# Altium integrated library Linear Technology Operational Amplifiers (LT1000).IntLib: 2280 symbols (part 30 of 79)
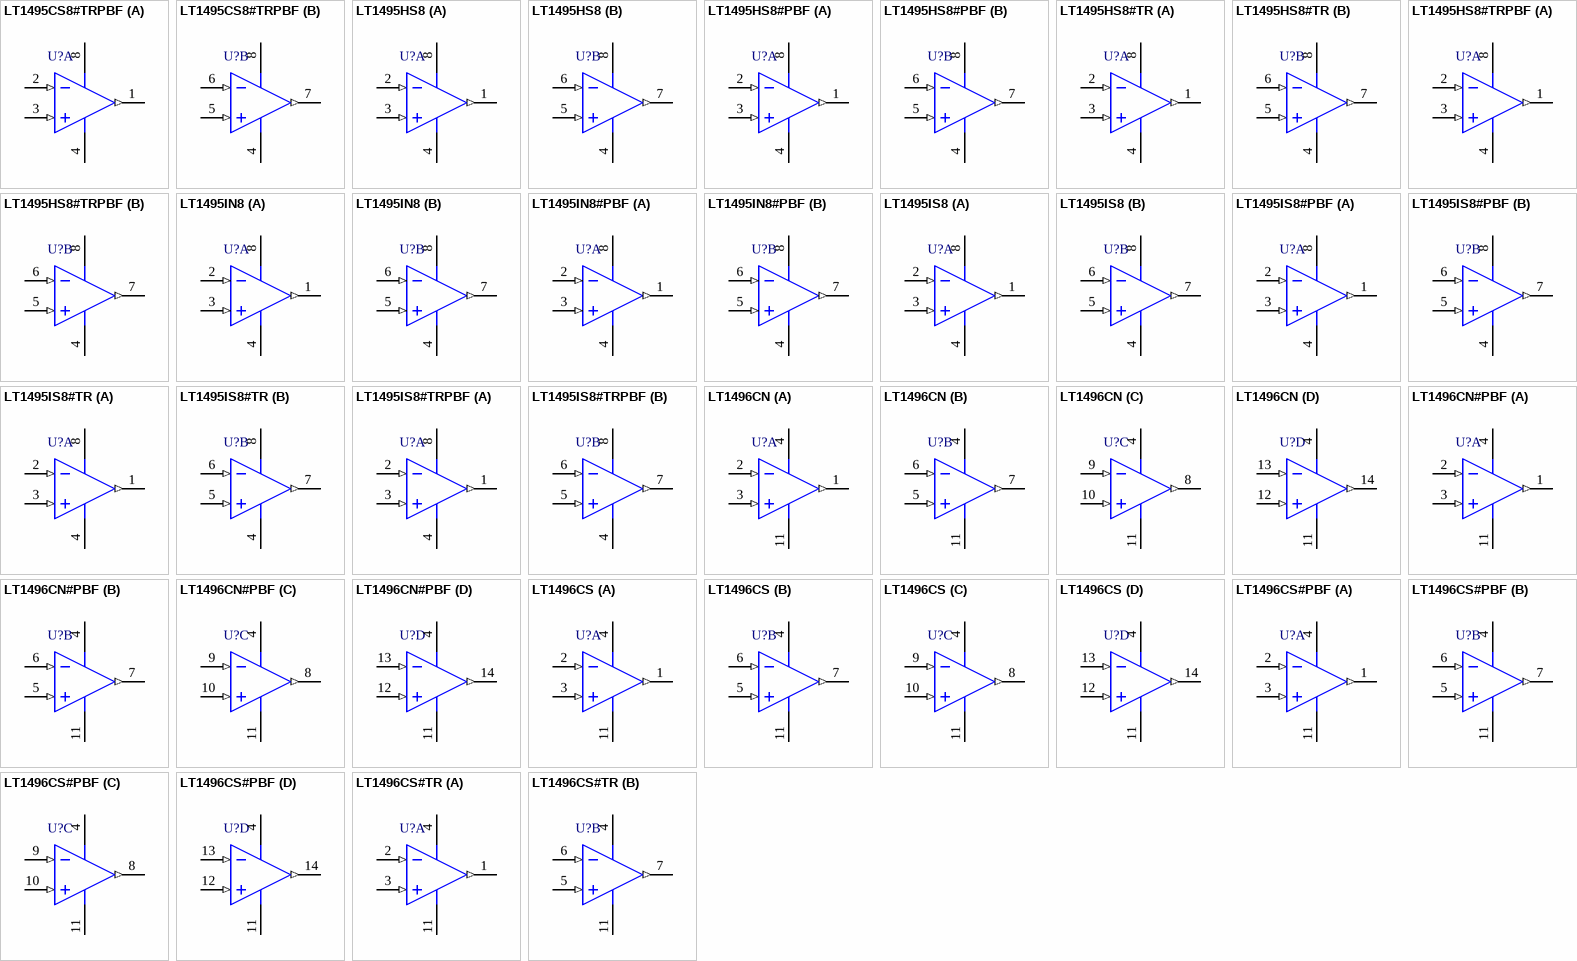
[diagram p134: symbols LT1495CS8#TRPBF to LT1496CS#TR]

## LT1495CS8#TRPBF
designator U?
Dual Channel, Ultralow Power, Rail-to-Rail Precision Operational Amplifier, 0.0027 MHz Typical GBW, 0.001 V/us Typical SR, 2.1 to 36 V, 8-Pin SOIC (S8-8), Commerical, Pb-Free, Reel; Linear Technology Part Number: LT1495; Manufacturer: Linear Technology; PartNumber: LT1495CS8#TRPBF; Channels (#): 2; GBW (MHz) Typical: 0.0027; Is (mA) Typical: 0.001; Vos (mV) Typical: 0.15; Vs Max (V): 36; Vs Min (V): 2.1; DatasheetVersion: Rev. B; PackageVersion: Rev G; PackageReference: LT-S8-8; PackageDescription: 8-Pin Plastic Small Outline, Body 4.9 x 3.9 mm, Pitch 1.27 mm; Supplier 1: Digi-Key; Supplier Part Number 1: LT1495CS8#TRPBF-ND; Packing: Reel; RoHS: Pb-Free; SR (V/us) Typical: 0.001; Type: VFB; Mounting Technology: Surface Mount; ComponentLink1Description: Manufacturer URL; ComponentLink1URL: http://www.linear.com/; ComponentLink2Description: Datasheet; ComponentLink2URL: http://cds.linear.com/docs/en/datasheet/149456fb.pdf; ComponentLink3Description: Package Specification; ComponentLink3URL: http://cds.linear.com/docs/en/packaging/05081610_G_SO8.pdf
footprint LT-S8-8_N (SOIC, 8-Leads, Body 4.9x3.9mm, Pitch 1.27mm, IPC Medium Density)
footprint LT-S8-8_L (SOIC, 8-Leads, Body 4.9x3.9mm, Pitch 1.27mm, IPC High Density)
footprint LT-S8-8_M (SOIC, 8-Leads, Body 4.9x3.9mm, Pitch 1.27mm, IPC Low Density)
pins on every part: 4 V- (power), 8 V+ (power)
part A pins: 1 OUT A (out), 2 -IN A (in), 3 +IN A (in)
part B pins: 5 +IN B (in), 6 -IN B (in), 7 OUT B (out)

## LT1495HS8
designator U?
Dual Channel, Ultralow Power, Rail-to-Rail Precision Operational Amplifier, 0.0027 MHz Typical GBW, 0.001 V/us Typical SR, 2.1 to 36 V, 8-Pin SOIC (S8-8), High Temperature / Automotive; Linear Technology Part Number: LT1495; Manufacturer: Linear Technology; PartNumber: LT1495HS8; Channels (#): 2; GBW (MHz) Typical: 0.0027; Is (mA) Typical: 0.001; Vos (mV) Typical: 0.15; Vs Max (V): 36; Vs Min (V): 2.1; DatasheetVersion: Rev. B; PackageVersion: Rev G; PackageReference: LT-S8-8; PackageDescription: 8-Pin Plastic Small Outline, Body 4.9 x 3.9 mm, Pitch 1.27 mm; Supplier 1: Digi-Key; Supplier Part Number 1: LT1495HS8-ND; Supplier 2: Newark; Supplier Part Number 2: 57M4525; SR (V/us) Typical: 0.001; Type: VFB; Mounting Technology: Surface Mount; ComponentLink1Description: Manufacturer URL; ComponentLink1URL: http://www.linear.com/; ComponentLink2Description: Datasheet; ComponentLink2URL: http://cds.linear.com/docs/en/datasheet/149456fb.pdf; ComponentLink3Description: Package Specification; ComponentLink3URL: http://cds.linear.com/docs/en/packaging/05081610_G_SO8.pdf
footprint LT-S8-8_N (SOIC, 8-Leads, Body 4.9x3.9mm, Pitch 1.27mm, IPC Medium Density)
footprint LT-S8-8_L (SOIC, 8-Leads, Body 4.9x3.9mm, Pitch 1.27mm, IPC High Density)
footprint LT-S8-8_M (SOIC, 8-Leads, Body 4.9x3.9mm, Pitch 1.27mm, IPC Low Density)
pins on every part: 4 V- (power), 8 V+ (power)
part A pins: 1 OUT A (out), 2 -IN A (in), 3 +IN A (in)
part B pins: 5 +IN B (in), 6 -IN B (in), 7 OUT B (out)

## LT1495HS8#PBF
designator U?
Dual Channel, Ultralow Power, Rail-to-Rail Precision Operational Amplifier, 0.0027 MHz Typical GBW, 0.001 V/us Typical SR, 2.1 to 36 V, 8-Pin SOIC (S8-8), High Temperature / Automotive, Pb-Free; Linear Technology Part Number: LT1495; Manufacturer: Linear Technology; PartNumber: LT1495HS8#PBF; Channels (#): 2; GBW (MHz) Typical: 0.0027; Is (mA) Typical: 0.001; Vos (mV) Typical: 0.15; Vs Max (V): 36; Vs Min (V): 2.1; DatasheetVersion: Rev. B; PackageVersion: Rev G; PackageReference: LT-S8-8; PackageDescription: 8-Pin Plastic Small Outline, Body 4.9 x 3.9 mm, Pitch 1.27 mm; Supplier 1: Digi-Key; Supplier Part Number 1: LT1495HS8#PBF-ND; Supplier 2: Newark; Supplier Part Number 2: 57M4526; RoHS: Pb-Free; SR (V/us) Typical: 0.001; Type: VFB; Mounting Technology: Surface Mount; ComponentLink1Description: Manufacturer URL; ComponentLink1URL: http://www.linear.com/; ComponentLink2Description: Datasheet; ComponentLink2URL: http://cds.linear.com/docs/en/datasheet/149456fb.pdf; ComponentLink3Description: Package Specification; ComponentLink3URL: http://cds.linear.com/docs/en/packaging/05081610_G_SO8.pdf
footprint LT-S8-8_N (SOIC, 8-Leads, Body 4.9x3.9mm, Pitch 1.27mm, IPC Medium Density)
footprint LT-S8-8_L (SOIC, 8-Leads, Body 4.9x3.9mm, Pitch 1.27mm, IPC High Density)
footprint LT-S8-8_M (SOIC, 8-Leads, Body 4.9x3.9mm, Pitch 1.27mm, IPC Low Density)
pins on every part: 4 V- (power), 8 V+ (power)
part A pins: 1 OUT A (out), 2 -IN A (in), 3 +IN A (in)
part B pins: 5 +IN B (in), 6 -IN B (in), 7 OUT B (out)

## LT1495HS8#TR
designator U?
Dual Channel, Ultralow Power, Rail-to-Rail Precision Operational Amplifier, 0.0027 MHz Typical GBW, 0.001 V/us Typical SR, 2.1 to 36 V, 8-Pin SOIC (S8-8), High Temperature / Automotive, Reel; Linear Technology Part Number: LT1495; Manufacturer: Linear Technology; PartNumber: LT1495HS8#TR; Channels (#): 2; GBW (MHz) Typical: 0.0027; Is (mA) Typical: 0.001; Vos (mV) Typical: 0.15; Vs Max (V): 36; Vs Min (V): 2.1; DatasheetVersion: Rev. B; PackageVersion: Rev G; PackageReference: LT-S8-8; PackageDescription: 8-Pin Plastic Small Outline, Body 4.9 x 3.9 mm, Pitch 1.27 mm; Supplier 1: Digi-Key; Supplier Part Number 1: LT1495HS8TR-ND; Packing: Reel; SR (V/us) Typical: 0.001; Type: VFB; Mounting Technology: Surface Mount; ComponentLink1Description: Manufacturer URL; ComponentLink1URL: http://www.linear.com/; ComponentLink2Description: Datasheet; ComponentLink2URL: http://cds.linear.com/docs/en/datasheet/149456fb.pdf; ComponentLink3Description: Package Specification; ComponentLink3URL: http://cds.linear.com/docs/en/packaging/05081610_G_SO8.pdf
footprint LT-S8-8_N (SOIC, 8-Leads, Body 4.9x3.9mm, Pitch 1.27mm, IPC Medium Density)
footprint LT-S8-8_L (SOIC, 8-Leads, Body 4.9x3.9mm, Pitch 1.27mm, IPC High Density)
footprint LT-S8-8_M (SOIC, 8-Leads, Body 4.9x3.9mm, Pitch 1.27mm, IPC Low Density)
pins on every part: 4 V- (power), 8 V+ (power)
part A pins: 1 OUT A (out), 2 -IN A (in), 3 +IN A (in)
part B pins: 5 +IN B (in), 6 -IN B (in), 7 OUT B (out)

## LT1495HS8#TRPBF
designator U?
Dual Channel, Ultralow Power, Rail-to-Rail Precision Operational Amplifier, 0.0027 MHz Typical GBW, 0.001 V/us Typical SR, 2.1 to 36 V, 8-Pin SOIC (S8-8), High Temperature / Automotive, Pb-Free, Reel; Linear Technology Part Number: LT1495; Manufacturer: Linear Technology; PartNumber: LT1495HS8#TRPBF; Channels (#): 2; GBW (MHz) Typical: 0.0027; Is (mA) Typical: 0.001; Vos (mV) Typical: 0.15; Vs Max (V): 36; Vs Min (V): 2.1; DatasheetVersion: Rev. B; PackageVersion: Rev G; PackageReference: LT-S8-8; PackageDescription: 8-Pin Plastic Small Outline, Body 4.9 x 3.9 mm, Pitch 1.27 mm; Supplier 1: Digi-Key; Supplier Part Number 1: LT1495HS8#TRPBF-ND; Packing: Reel; RoHS: Pb-Free; SR (V/us) Typical: 0.001; Type: VFB; Mounting Technology: Surface Mount; ComponentLink1Description: Manufacturer URL; ComponentLink1URL: http://www.linear.com/; ComponentLink2Description: Datasheet; ComponentLink2URL: http://cds.linear.com/docs/en/datasheet/149456fb.pdf; ComponentLink3Description: Package Specification; ComponentLink3URL: http://cds.linear.com/docs/en/packaging/05081610_G_SO8.pdf
footprint LT-S8-8_N (SOIC, 8-Leads, Body 4.9x3.9mm, Pitch 1.27mm, IPC Medium Density)
footprint LT-S8-8_L (SOIC, 8-Leads, Body 4.9x3.9mm, Pitch 1.27mm, IPC High Density)
footprint LT-S8-8_M (SOIC, 8-Leads, Body 4.9x3.9mm, Pitch 1.27mm, IPC Low Density)
pins on every part: 4 V- (power), 8 V+ (power)
part A pins: 1 OUT A (out), 2 -IN A (in), 3 +IN A (in)
part B pins: 5 +IN B (in), 6 -IN B (in), 7 OUT B (out)

## LT1495IN8
designator U?
Dual Channel, Ultralow Power, Rail-to-Rail Precision Operational Amplifier, 0.0027 MHz Typical GBW, 0.001 V/us Typical SR, 2.1 to 36 V, 8-Pin DIP (N8-8), Industrial; Linear Technology Part Number: LT1495; Manufacturer: Linear Technology; PartNumber: LT1495IN8; Channels (#): 2; GBW (MHz) Typical: 0.0027; Is (mA) Typical: 0.001; Vos (mV) Typical: 0.15; Vs Max (V): 36; Vs Min (V): 2.1; DatasheetVersion: Rev. B; PackageVersion: Rev I; PackageReference: LT-N8-8; PackageDescription: 8-Lead PDIP, Body 10.16 x 6.48 mm, Pitch 2.54 mm; Supplier 1: Digi-Key; Supplier Part Number 1: LT1495IN8-ND; SR (V/us) Typical: 0.001; Type: VFB; Mounting Technology: Surface Mount; ComponentLink1Description: Manufacturer URL; ComponentLink1URL: http://www.linear.com/; ComponentLink2Description: Datasheet; ComponentLink2URL: http://cds.linear.com/docs/en/datasheet/149456fb.pdf; ComponentLink3Description: Package Specification; ComponentLink3URL: http://cds.linear.com/docs/en/packaging/05081510_I_N8.pdf
footprint LT-N8-8 (DIP, 8-Leads, Body 10.16x6.48mm, Pitch 2.54mm)
pins on every part: 4 V- (power), 8 V+ (power)
part A pins: 1 OUT A (out), 2 -IN A (in), 3 +IN A (in)
part B pins: 5 +IN B (in), 6 -IN B (in), 7 OUT B (out)

## LT1495IN8#PBF
designator U?
Dual Channel, Ultralow Power, Rail-to-Rail Precision Operational Amplifier, 0.0027 MHz Typical GBW, 0.001 V/us Typical SR, 2.1 to 36 V, 8-Pin DIP (N8-8), Industrial, Pb-Free; Linear Technology Part Number: LT1495; Manufacturer: Linear Technology; PartNumber: LT1495IN8#PBF; Channels (#): 2; GBW (MHz) Typical: 0.0027; Is (mA) Typical: 0.001; Vos (mV) Typical: 0.15; Vs Max (V): 36; Vs Min (V): 2.1; DatasheetVersion: Rev. B; PackageVersion: Rev I; PackageReference: LT-N8-8; PackageDescription: 8-Lead PDIP, Body 10.16 x 6.48 mm, Pitch 2.54 mm; Supplier 1: Digi-Key; Supplier Part Number 1: LT1495IN8#PBF-ND; RoHS: Pb-Free; SR (V/us) Typical: 0.001; Type: VFB; Mounting Technology: Through Hole; ComponentLink1Description: Manufacturer URL; ComponentLink1URL: http://www.linear.com/; ComponentLink2Description: Datasheet; ComponentLink2URL: http://cds.linear.com/docs/en/datasheet/149456fb.pdf; ComponentLink3Description: Package Specification; ComponentLink3URL: http://cds.linear.com/docs/en/packaging/05081510_I_N8.pdf
footprint LT-N8-8 (DIP, 8-Leads, Body 10.16x6.48mm, Pitch 2.54mm)
pins on every part: 4 V- (power), 8 V+ (power)
part A pins: 1 OUT A (out), 2 -IN A (in), 3 +IN A (in)
part B pins: 5 +IN B (in), 6 -IN B (in), 7 OUT B (out)

## LT1495IS8
designator U?
Dual Channel, Ultralow Power, Rail-to-Rail Precision Operational Amplifier, 0.0027 MHz Typical GBW, 0.001 V/us Typical SR, 2.1 to 36 V, 8-Pin SOIC (S8-8), Industrial; Linear Technology Part Number: LT1495; Manufacturer: Linear Technology; PartNumber: LT1495IS8; Channels (#): 2; GBW (MHz) Typical: 0.0027; Is (mA) Typical: 0.001; Vos (mV) Typical: 0.15; Vs Max (V): 36; Vs Min (V): 2.1; DatasheetVersion: Rev. B; PackageVersion: Rev G; PackageReference: LT-S8-8; PackageDescription: 8-Pin Plastic Small Outline, Body 4.9 x 3.9 mm, Pitch 1.27 mm; Supplier 1: Digi-Key; Supplier Part Number 1: LT1495IS8-ND; Supplier 2: Newark; Supplier Part Number 2: 57M4531; SR (V/us) Typical: 0.001; Type: VFB; Mounting Technology: Surface Mount; ComponentLink1Description: Manufacturer URL; ComponentLink1URL: http://www.linear.com/; ComponentLink2Description: Datasheet; ComponentLink2URL: http://cds.linear.com/docs/en/datasheet/149456fb.pdf; ComponentLink3Description: Package Specification; ComponentLink3URL: http://cds.linear.com/docs/en/packaging/05081610_G_SO8.pdf
footprint LT-S8-8_N (SOIC, 8-Leads, Body 4.9x3.9mm, Pitch 1.27mm, IPC Medium Density)
footprint LT-S8-8_L (SOIC, 8-Leads, Body 4.9x3.9mm, Pitch 1.27mm, IPC High Density)
footprint LT-S8-8_M (SOIC, 8-Leads, Body 4.9x3.9mm, Pitch 1.27mm, IPC Low Density)
pins on every part: 4 V- (power), 8 V+ (power)
part A pins: 1 OUT A (out), 2 -IN A (in), 3 +IN A (in)
part B pins: 5 +IN B (in), 6 -IN B (in), 7 OUT B (out)

## LT1495IS8#PBF
designator U?
Dual Channel, Ultralow Power, Rail-to-Rail Precision Operational Amplifier, 0.0027 MHz Typical GBW, 0.001 V/us Typical SR, 2.1 to 36 V, 8-Pin SOIC (S8-8), Industrial, Pb-Free; Linear Technology Part Number: LT1495; Manufacturer: Linear Technology; PartNumber: LT1495IS8#PBF; Channels (#): 2; GBW (MHz) Typical: 0.0027; Is (mA) Typical: 0.001; Vos (mV) Typical: 0.15; Vs Max (V): 36; Vs Min (V): 2.1; DatasheetVersion: Rev. B; PackageVersion: Rev G; PackageReference: LT-S8-8; PackageDescription: 8-Pin Plastic Small Outline, Body 4.9 x 3.9 mm, Pitch 1.27 mm; Supplier 1: Digi-Key; Supplier Part Number 1: LT1495IS8#PBF-ND; Supplier 2: Farnell; Supplier Part Number 2: 2252726; Supplier 3: Newark; Supplier Part Number 3: 57M4532; RoHS: Pb-Free; SR (V/us) Typical: 0.001; Type: VFB; Mounting Technology: Surface Mount; ComponentLink1Description: Manufacturer URL; ComponentLink1URL: http://www.linear.com/; ComponentLink2Description: Datasheet; ComponentLink2URL: http://cds.linear.com/docs/en/datasheet/149456fb.pdf; ComponentLink3Description: Package Specification; ComponentLink3URL: http://cds.linear.com/docs/en/packaging/05081610_G_SO8.pdf
footprint LT-S8-8_N (SOIC, 8-Leads, Body 4.9x3.9mm, Pitch 1.27mm, IPC Medium Density)
footprint LT-S8-8_L (SOIC, 8-Leads, Body 4.9x3.9mm, Pitch 1.27mm, IPC High Density)
footprint LT-S8-8_M (SOIC, 8-Leads, Body 4.9x3.9mm, Pitch 1.27mm, IPC Low Density)
pins on every part: 4 V- (power), 8 V+ (power)
part A pins: 1 OUT A (out), 2 -IN A (in), 3 +IN A (in)
part B pins: 5 +IN B (in), 6 -IN B (in), 7 OUT B (out)

## LT1495IS8#TR
designator U?
Dual Channel, Ultralow Power, Rail-to-Rail Precision Operational Amplifier, 0.0027 MHz Typical GBW, 0.001 V/us Typical SR, 2.1 to 36 V, 8-Pin SOIC (S8-8), Industrial, Reel; Linear Technology Part Number: LT1495; Manufacturer: Linear Technology; PartNumber: LT1495IS8#TR; Channels (#): 2; GBW (MHz) Typical: 0.0027; Is (mA) Typical: 0.001; Vos (mV) Typical: 0.15; Vs Max (V): 36; Vs Min (V): 2.1; DatasheetVersion: Rev. B; PackageVersion: Rev G; PackageReference: LT-S8-8; PackageDescription: 8-Pin Plastic Small Outline, Body 4.9 x 3.9 mm, Pitch 1.27 mm; Supplier 1: Digi-Key; Supplier Part Number 1: LT1495IS8#TR-ND; Supplier 2: Newark; Supplier Part Number 2: 57M4533; Packing: Reel; SR (V/us) Typical: 0.001; Type: VFB; Mounting Technology: Surface Mount; ComponentLink1Description: Manufacturer URL; ComponentLink1URL: http://www.linear.com/; ComponentLink2Description: Datasheet; ComponentLink2URL: http://cds.linear.com/docs/en/datasheet/149456fb.pdf; ComponentLink3Description: Package Specification; ComponentLink3URL: http://cds.linear.com/docs/en/packaging/05081610_G_SO8.pdf
footprint LT-S8-8_N (SOIC, 8-Leads, Body 4.9x3.9mm, Pitch 1.27mm, IPC Medium Density)
footprint LT-S8-8_L (SOIC, 8-Leads, Body 4.9x3.9mm, Pitch 1.27mm, IPC High Density)
footprint LT-S8-8_M (SOIC, 8-Leads, Body 4.9x3.9mm, Pitch 1.27mm, IPC Low Density)
pins on every part: 4 V- (power), 8 V+ (power)
part A pins: 1 OUT A (out), 2 -IN A (in), 3 +IN A (in)
part B pins: 5 +IN B (in), 6 -IN B (in), 7 OUT B (out)

## LT1495IS8#TRPBF
designator U?
Dual Channel, Ultralow Power, Rail-to-Rail Precision Operational Amplifier, 0.0027 MHz Typical GBW, 0.001 V/us Typical SR, 2.1 to 36 V, 8-Pin SOIC (S8-8), Industrial, Pb-Free, Reel; Linear Technology Part Number: LT1495; Manufacturer: Linear Technology; PartNumber: LT1495IS8#TRPBF; Channels (#): 2; GBW (MHz) Typical: 0.0027; Is (mA) Typical: 0.001; Vos (mV) Typical: 0.15; Vs Max (V): 36; Vs Min (V): 2.1; DatasheetVersion: Rev. B; PackageVersion: Rev G; PackageReference: LT-S8-8; PackageDescription: 8-Pin Plastic Small Outline, Body 4.9 x 3.9 mm, Pitch 1.27 mm; Supplier 1: Digi-Key; Supplier Part Number 1: LT1495IS8#TRPBF-ND; Supplier 2: Newark; Supplier Part Number 2: 57M4534; Packing: Reel; RoHS: Pb-Free; SR (V/us) Typical: 0.001; Type: VFB; Mounting Technology: Surface Mount; ComponentLink1Description: Manufacturer URL; ComponentLink1URL: http://www.linear.com/; ComponentLink2Description: Datasheet; ComponentLink2URL: http://cds.linear.com/docs/en/datasheet/149456fb.pdf; ComponentLink3Description: Package Specification; ComponentLink3URL: http://cds.linear.com/docs/en/packaging/05081610_G_SO8.pdf
footprint LT-S8-8_N (SOIC, 8-Leads, Body 4.9x3.9mm, Pitch 1.27mm, IPC Medium Density)
footprint LT-S8-8_L (SOIC, 8-Leads, Body 4.9x3.9mm, Pitch 1.27mm, IPC High Density)
footprint LT-S8-8_M (SOIC, 8-Leads, Body 4.9x3.9mm, Pitch 1.27mm, IPC Low Density)
pins on every part: 4 V- (power), 8 V+ (power)
part A pins: 1 OUT A (out), 2 -IN A (in), 3 +IN A (in)
part B pins: 5 +IN B (in), 6 -IN B (in), 7 OUT B (out)

## LT1496CN
designator U?
Quad Channel, Ultralow Power, Rail-to-Rail Precision Operational Amplifier, 0.0027 MHz Typical GBW, 0.001 V/us Typical SR, 2.1 to 36 V, 14-Pin DIP (N-14), Commerical; Linear Technology Part Number: LT1496; Manufacturer: Linear Technology; PartNumber: LT1496CN; Channels (#): 4; GBW (MHz) Typical: 0.0027; Is (mA) Typical: 0.001; Vos (mV) Typical: 0.15; Vs Max (V): 36; Vs Min (V): 2.1; DatasheetVersion: Rev. B; PackageVersion: Rev I; PackageReference: LT-N-14; PackageDescription: 14-Lead PDIP, Body 19.558 x 6.477 mm, Pitch 2.54 mm; Supplier 1: Digi-Key; Supplier Part Number 1: LT1496CN-ND; SR (V/us) Typical: 0.001; Type: VFB; Mounting Technology: Surface Mount; ComponentLink1Description: Manufacturer URL; ComponentLink1URL: http://www.linear.com/; ComponentLink2Description: Datasheet; ComponentLink2URL: http://cds.linear.com/docs/en/datasheet/149456fb.pdf; ComponentLink3Description: Package Specification; ComponentLink3URL: http://cds.linear.com/docs/en/packaging/05081510_I_N14.pdf
footprint LT-N-14 (DIP, 14-Leads, Body 19.558x6.477mm, Pitch 2.54mm)
pins on every part: 4 V+ (power), 11 V- (power)
part A pins: 1 OUT A (out), 2 -IN A (in), 3 +IN A (in)
part B pins: 5 +IN B (in), 6 -IN B (in), 7 OUT B (out)
part C pins: 8 OUT C (out), 9 -IN C (in), 10 +IN C (in)
part D pins: 12 +IN D (in), 13 -IN D (in), 14 OUT D (out)

## LT1496CN#PBF
designator U?
Quad Channel, Ultralow Power, Rail-to-Rail Precision Operational Amplifier, 0.0027 MHz Typical GBW, 0.001 V/us Typical SR, 2.1 to 36 V, 14-Pin DIP (N-14), Commerical, Pb-Free; Linear Technology Part Number: LT1496; Manufacturer: Linear Technology; PartNumber: LT1496CN#PBF; Channels (#): 4; GBW (MHz) Typical: 0.0027; Is (mA) Typical: 0.001; Vos (mV) Typical: 0.15; Vs Max (V): 36; Vs Min (V): 2.1; DatasheetVersion: Rev. B; PackageVersion: Rev I; PackageReference: LT-N-14; PackageDescription: 14-Lead PDIP, Body 19.558 x 6.477 mm, Pitch 2.54 mm; Supplier 1: Digi-Key; Supplier Part Number 1: LT1496CN#PBF-ND; RoHS: Pb-Free; SR (V/us) Typical: 0.001; Type: VFB; Mounting Technology: Through Hole; ComponentLink1Description: Manufacturer URL; ComponentLink1URL: http://www.linear.com/; ComponentLink2Description: Datasheet; ComponentLink2URL: http://cds.linear.com/docs/en/datasheet/149456fb.pdf; ComponentLink3Description: Package Specification; ComponentLink3URL: http://cds.linear.com/docs/en/packaging/05081510_I_N14.pdf
footprint LT-N-14 (DIP, 14-Leads, Body 19.558x6.477mm, Pitch 2.54mm)
pins on every part: 4 V+ (power), 11 V- (power)
part A pins: 1 OUT A (out), 2 -IN A (in), 3 +IN A (in)
part B pins: 5 +IN B (in), 6 -IN B (in), 7 OUT B (out)
part C pins: 8 OUT C (out), 9 -IN C (in), 10 +IN C (in)
part D pins: 12 +IN D (in), 13 -IN D (in), 14 OUT D (out)

## LT1496CS
designator U?
Quad Channel, Ultralow Power, Rail-to-Rail Precision Operational Amplifier, 0.0027 MHz Typical GBW, 0.001 V/us Typical SR, 2.1 to 36 V, 14-Pin SOIC (S-14), Commerical; Linear Technology Part Number: LT1496; Manufacturer: Linear Technology; PartNumber: LT1496CS; Channels (#): 4; GBW (MHz) Typical: 0.0027; Is (mA) Typical: 0.001; Vos (mV) Typical: 0.15; Vs Max (V): 36; Vs Min (V): 2.1; DatasheetVersion: Rev. B; PackageVersion: Rev G; PackageReference: LT-S-14; PackageDescription: 14-Lead Plastic Small Outline, Body 8.65 x 3.90 mm, Pitch 1.27 mm; Supplier 1: Digi-Key; Supplier Part Number 1: LT1496CS-ND; SR (V/us) Typical: 0.001; Type: VFB; Mounting Technology: Surface Mount; ComponentLink1Description: Manufacturer URL; ComponentLink1URL: http://www.linear.com/; ComponentLink2Description: Datasheet; ComponentLink2URL: http://cds.linear.com/docs/en/datasheet/149456fb.pdf; ComponentLink3Description: Package Specification; ComponentLink3URL: http://cds.linear.com/docs/en/packaging/05081610_G_S14.pdf
footprint LT-S-14_N (SOIC, 14-Leads, Body 8.65x3.90mm, Pitch 1.27mm, IPC Medium Density)
footprint LT-S-14_L (SOIC, 14-Leads, Body 8.65x3.90mm, Pitch 1.27mm, IPC High Density)
footprint LT-S-14_M (SOIC, 14-Leads, Body 8.65x3.90mm, Pitch 1.27mm, IPC Low Density)
pins on every part: 4 V+ (power), 11 V- (power)
part A pins: 1 OUT A (out), 2 -IN A (in), 3 +IN A (in)
part B pins: 5 +IN B (in), 6 -IN B (in), 7 OUT B (out)
part C pins: 8 OUT C (out), 9 -IN C (in), 10 +IN C (in)
part D pins: 12 +IN D (in), 13 -IN D (in), 14 OUT D (out)

## LT1496CS#PBF
designator U?
Quad Channel, Ultralow Power, Rail-to-Rail Precision Operational Amplifier, 0.0027 MHz Typical GBW, 0.001 V/us Typical SR, 2.1 to 36 V, 14-Pin SOIC (S-14), Commerical, Pb-Free; Linear Technology Part Number: LT1496; Manufacturer: Linear Technology; PartNumber: LT1496CS#PBF; Channels (#): 4; GBW (MHz) Typical: 0.0027; Is (mA) Typical: 0.001; Vos (mV) Typical: 0.15; Vs Max (V): 36; Vs Min (V): 2.1; DatasheetVersion: Rev. B; PackageVersion: Rev G; PackageReference: LT-S-14; PackageDescription: 14-Lead Plastic Small Outline, Body 8.65 x 3.90 mm, Pitch 1.27 mm; Supplier 1: Digi-Key; Supplier Part Number 1: LT1496CS#PBF-ND; Supplier 2: Farnell; Supplier Part Number 2: 1330672; Supplier 3: Newark; Supplier Part Number 3: 57M4538; RoHS: Pb-Free; SR (V/us) Typical: 0.001; Type: VFB; Mounting Technology: Surface Mount; ComponentLink1Description: Manufacturer URL; ComponentLink1URL: http://www.linear.com/; ComponentLink2Description: Datasheet; ComponentLink2URL: http://cds.linear.com/docs/en/datasheet/149456fb.pdf; ComponentLink3Description: Package Specification; ComponentLink3URL: http://cds.linear.com/docs/en/packaging/05081610_G_S14.pdf
footprint LT-S-14_N (SOIC, 14-Leads, Body 8.65x3.90mm, Pitch 1.27mm, IPC Medium Density)
footprint LT-S-14_L (SOIC, 14-Leads, Body 8.65x3.90mm, Pitch 1.27mm, IPC High Density)
footprint LT-S-14_M (SOIC, 14-Leads, Body 8.65x3.90mm, Pitch 1.27mm, IPC Low Density)
pins on every part: 4 V+ (power), 11 V- (power)
part A pins: 1 OUT A (out), 2 -IN A (in), 3 +IN A (in)
part B pins: 5 +IN B (in), 6 -IN B (in), 7 OUT B (out)
part C pins: 8 OUT C (out), 9 -IN C (in), 10 +IN C (in)
part D pins: 12 +IN D (in), 13 -IN D (in), 14 OUT D (out)

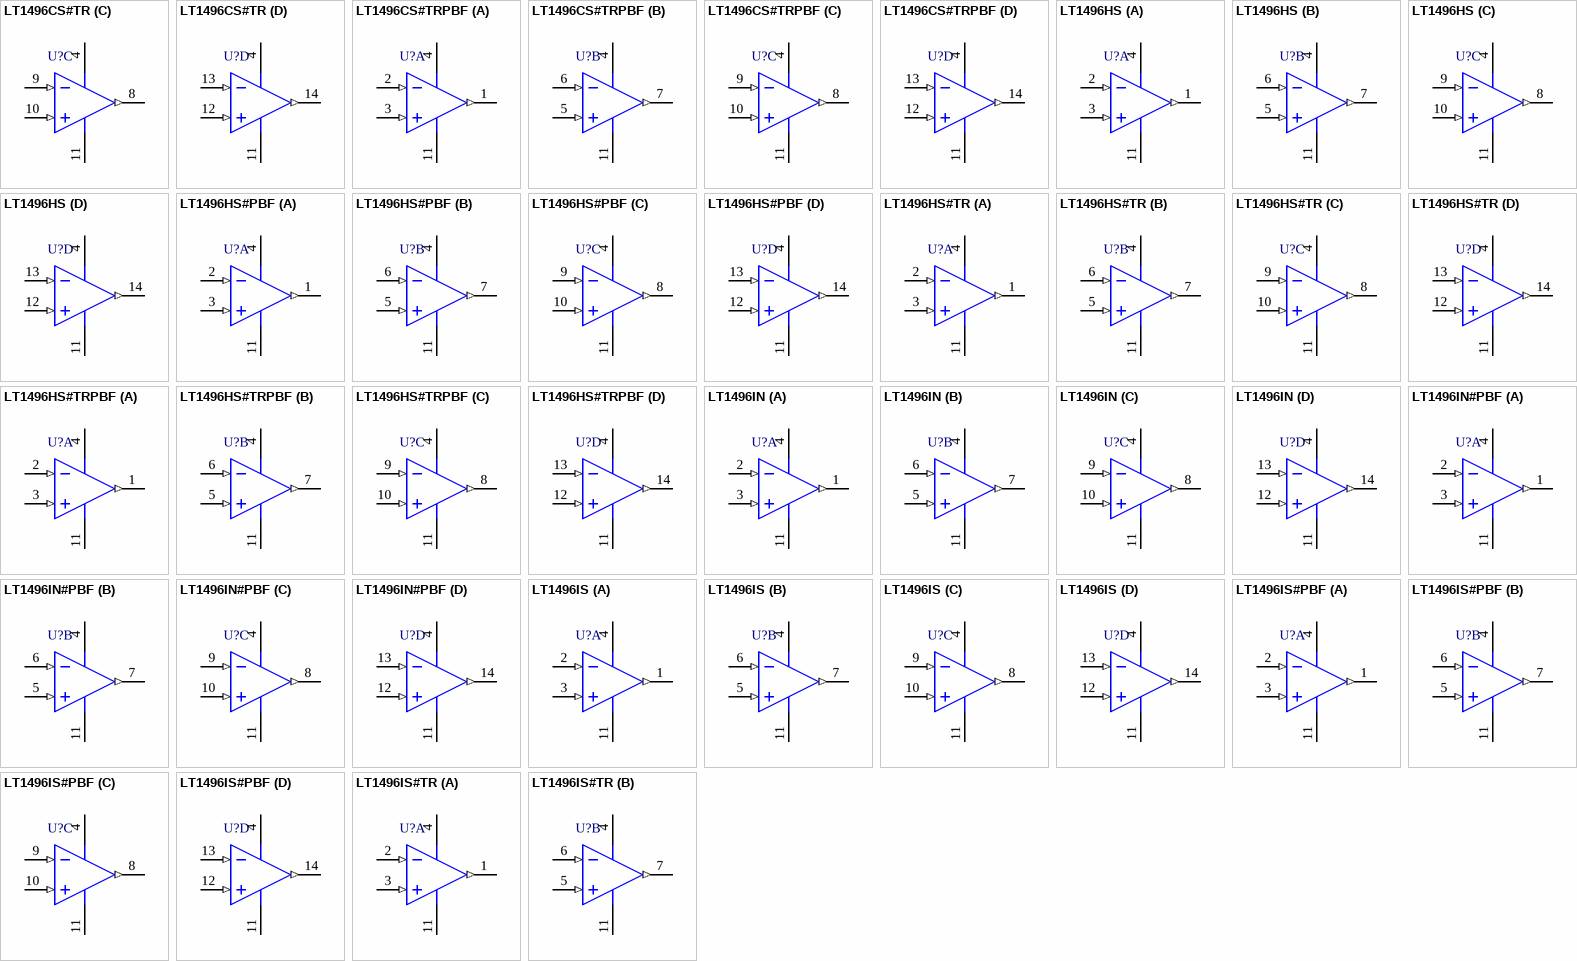
[diagram p51: symbols LT1496CS#TR to LT1496IS#TR]

## LT1496CS#TR
designator U?
Quad Channel, Ultralow Power, Rail-to-Rail Precision Operational Amplifier, 0.0027 MHz Typical GBW, 0.001 V/us Typical SR, 2.1 to 36 V, 14-Pin SOIC (S-14), Commerical, Reel; Linear Technology Part Number: LT1496; Manufacturer: Linear Technology; PartNumber: LT1496CS#TR; Channels (#): 4; GBW (MHz) Typical: 0.0027; Is (mA) Typical: 0.001; Vos (mV) Typical: 0.15; Vs Max (V): 36; Vs Min (V): 2.1; DatasheetVersion: Rev. B; PackageVersion: Rev G; PackageReference: LT-S-14; PackageDescription: 14-Lead Plastic Small Outline, Body 8.65 x 3.90 mm, Pitch 1.27 mm; Supplier 1: Digi-Key; Supplier Part Number 1: LT1496CS#TR-ND; Packing: Reel; SR (V/us) Typical: 0.001; Type: VFB; Mounting Technology: Surface Mount; ComponentLink1Description: Manufacturer URL; ComponentLink1URL: http://www.linear.com/; ComponentLink2Description: Datasheet; ComponentLink2URL: http://cds.linear.com/docs/en/datasheet/149456fb.pdf; ComponentLink3Description: Package Specification; ComponentLink3URL: http://cds.linear.com/docs/en/packaging/05081610_G_S14.pdf
footprint LT-S-14_N (SOIC, 14-Leads, Body 8.65x3.90mm, Pitch 1.27mm, IPC Medium Density)
footprint LT-S-14_L (SOIC, 14-Leads, Body 8.65x3.90mm, Pitch 1.27mm, IPC High Density)
footprint LT-S-14_M (SOIC, 14-Leads, Body 8.65x3.90mm, Pitch 1.27mm, IPC Low Density)
pins on every part: 4 V+ (power), 11 V- (power)
part A pins: 1 OUT A (out), 2 -IN A (in), 3 +IN A (in)
part B pins: 5 +IN B (in), 6 -IN B (in), 7 OUT B (out)
part C pins: 8 OUT C (out), 9 -IN C (in), 10 +IN C (in)
part D pins: 12 +IN D (in), 13 -IN D (in), 14 OUT D (out)

## LT1496CS#TRPBF
designator U?
Quad Channel, Ultralow Power, Rail-to-Rail Precision Operational Amplifier, 0.0027 MHz Typical GBW, 0.001 V/us Typical SR, 2.1 to 36 V, 14-Pin SOIC (S-14), Commerical, Pb-Free, Reel; Linear Technology Part Number: LT1496; Manufacturer: Linear Technology; PartNumber: LT1496CS#TRPBF; Channels (#): 4; GBW (MHz) Typical: 0.0027; Is (mA) Typical: 0.001; Vos (mV) Typical: 0.15; Vs Max (V): 36; Vs Min (V): 2.1; DatasheetVersion: Rev. B; PackageVersion: Rev G; PackageReference: LT-S-14; PackageDescription: 14-Lead Plastic Small Outline, Body 8.65 x 3.90 mm, Pitch 1.27 mm; Supplier 1: Digi-Key; Supplier Part Number 1: LT1496CS#TRPBF-ND; Packing: Reel; RoHS: Pb-Free; SR (V/us) Typical: 0.001; Type: VFB; Mounting Technology: Surface Mount; ComponentLink1Description: Manufacturer URL; ComponentLink1URL: http://www.linear.com/; ComponentLink2Description: Datasheet; ComponentLink2URL: http://cds.linear.com/docs/en/datasheet/149456fb.pdf; ComponentLink3Description: Package Specification; ComponentLink3URL: http://cds.linear.com/docs/en/packaging/05081610_G_S14.pdf
footprint LT-S-14_N (SOIC, 14-Leads, Body 8.65x3.90mm, Pitch 1.27mm, IPC Medium Density)
footprint LT-S-14_L (SOIC, 14-Leads, Body 8.65x3.90mm, Pitch 1.27mm, IPC High Density)
footprint LT-S-14_M (SOIC, 14-Leads, Body 8.65x3.90mm, Pitch 1.27mm, IPC Low Density)
pins on every part: 4 V+ (power), 11 V- (power)
part A pins: 1 OUT A (out), 2 -IN A (in), 3 +IN A (in)
part B pins: 5 +IN B (in), 6 -IN B (in), 7 OUT B (out)
part C pins: 8 OUT C (out), 9 -IN C (in), 10 +IN C (in)
part D pins: 12 +IN D (in), 13 -IN D (in), 14 OUT D (out)

## LT1496HS
designator U?
Quad Channel, Ultralow Power, Rail-to-Rail Precision Operational Amplifier, 0.0027 MHz Typical GBW, 0.001 V/us Typical SR, 2.1 to 36 V, 14-Pin SOIC (S-14), High Temperature / Automotive; Linear Technology Part Number: LT1496; Manufacturer: Linear Technology; PartNumber: LT1496HS; Channels (#): 4; GBW (MHz) Typical: 0.0027; Is (mA) Typical: 0.001; Vos (mV) Typical: 0.15; Vs Max (V): 36; Vs Min (V): 2.1; DatasheetVersion: Rev. B; PackageVersion: Rev G; PackageReference: LT-S-14; PackageDescription: 14-Lead Plastic Small Outline, Body 8.65 x 3.90 mm, Pitch 1.27 mm; Supplier 1: Digi-Key; Supplier Part Number 1: LT1496HS-ND; SR (V/us) Typical: 0.001; Type: VFB; Mounting Technology: Surface Mount; ComponentLink1Description: Manufacturer URL; ComponentLink1URL: http://www.linear.com/; ComponentLink2Description: Datasheet; ComponentLink2URL: http://cds.linear.com/docs/en/datasheet/149456fb.pdf; ComponentLink3Description: Package Specification; ComponentLink3URL: http://cds.linear.com/docs/en/packaging/05081610_G_S14.pdf
footprint LT-S-14_N (SOIC, 14-Leads, Body 8.65x3.90mm, Pitch 1.27mm, IPC Medium Density)
footprint LT-S-14_L (SOIC, 14-Leads, Body 8.65x3.90mm, Pitch 1.27mm, IPC High Density)
footprint LT-S-14_M (SOIC, 14-Leads, Body 8.65x3.90mm, Pitch 1.27mm, IPC Low Density)
pins on every part: 4 V+ (power), 11 V- (power)
part A pins: 1 OUT A (out), 2 -IN A (in), 3 +IN A (in)
part B pins: 5 +IN B (in), 6 -IN B (in), 7 OUT B (out)
part C pins: 8 OUT C (out), 9 -IN C (in), 10 +IN C (in)
part D pins: 12 +IN D (in), 13 -IN D (in), 14 OUT D (out)

## LT1496HS#PBF
designator U?
Quad Channel, Ultralow Power, Rail-to-Rail Precision Operational Amplifier, 0.0027 MHz Typical GBW, 0.001 V/us Typical SR, 2.1 to 36 V, 14-Pin SOIC (S-14), High Temperature / Automotive, Pb-Free; Linear Technology Part Number: LT1496; Manufacturer: Linear Technology; PartNumber: LT1496HS#PBF; Channels (#): 4; GBW (MHz) Typical: 0.0027; Is (mA) Typical: 0.001; Vos (mV) Typical: 0.15; Vs Max (V): 36; Vs Min (V): 2.1; DatasheetVersion: Rev. B; PackageVersion: Rev G; PackageReference: LT-S-14; PackageDescription: 14-Lead Plastic Small Outline, Body 8.65 x 3.90 mm, Pitch 1.27 mm; Supplier 1: Digi-Key; Supplier Part Number 1: LT1496HS#PBF-ND; Supplier 2: Newark; Supplier Part Number 2: 57M4542; RoHS: Pb-Free; SR (V/us) Typical: 0.001; Type: VFB; Mounting Technology: Surface Mount; ComponentLink1Description: Manufacturer URL; ComponentLink1URL: http://www.linear.com/; ComponentLink2Description: Datasheet; ComponentLink2URL: http://cds.linear.com/docs/en/datasheet/149456fb.pdf; ComponentLink3Description: Package Specification; ComponentLink3URL: http://cds.linear.com/docs/en/packaging/05081610_G_S14.pdf
footprint LT-S-14_N (SOIC, 14-Leads, Body 8.65x3.90mm, Pitch 1.27mm, IPC Medium Density)
footprint LT-S-14_L (SOIC, 14-Leads, Body 8.65x3.90mm, Pitch 1.27mm, IPC High Density)
footprint LT-S-14_M (SOIC, 14-Leads, Body 8.65x3.90mm, Pitch 1.27mm, IPC Low Density)
pins on every part: 4 V+ (power), 11 V- (power)
part A pins: 1 OUT A (out), 2 -IN A (in), 3 +IN A (in)
part B pins: 5 +IN B (in), 6 -IN B (in), 7 OUT B (out)
part C pins: 8 OUT C (out), 9 -IN C (in), 10 +IN C (in)
part D pins: 12 +IN D (in), 13 -IN D (in), 14 OUT D (out)

## LT1496HS#TR
designator U?
Quad Channel, Ultralow Power, Rail-to-Rail Precision Operational Amplifier, 0.0027 MHz Typical GBW, 0.001 V/us Typical SR, 2.1 to 36 V, 14-Pin SOIC (S-14), High Temperature / Automotive, Reel; Linear Technology Part Number: LT1496; Manufacturer: Linear Technology; PartNumber: LT1496HS#TR; Channels (#): 4; GBW (MHz) Typical: 0.0027; Is (mA) Typical: 0.001; Vos (mV) Typical: 0.15; Vs Max (V): 36; Vs Min (V): 2.1; DatasheetVersion: Rev. B; PackageVersion: Rev G; PackageReference: LT-S-14; PackageDescription: 14-Lead Plastic Small Outline, Body 8.65 x 3.90 mm, Pitch 1.27 mm; Supplier 1: Digi-Key; Supplier Part Number 1: LT1496HSTR-ND; Packing: Reel; SR (V/us) Typical: 0.001; Type: VFB; Mounting Technology: Surface Mount; ComponentLink1Description: Manufacturer URL; ComponentLink1URL: http://www.linear.com/; ComponentLink2Description: Datasheet; ComponentLink2URL: http://cds.linear.com/docs/en/datasheet/149456fb.pdf; ComponentLink3Description: Package Specification; ComponentLink3URL: http://cds.linear.com/docs/en/packaging/05081610_G_S14.pdf
footprint LT-S-14_N (SOIC, 14-Leads, Body 8.65x3.90mm, Pitch 1.27mm, IPC Medium Density)
footprint LT-S-14_L (SOIC, 14-Leads, Body 8.65x3.90mm, Pitch 1.27mm, IPC High Density)
footprint LT-S-14_M (SOIC, 14-Leads, Body 8.65x3.90mm, Pitch 1.27mm, IPC Low Density)
pins on every part: 4 V+ (power), 11 V- (power)
part A pins: 1 OUT A (out), 2 -IN A (in), 3 +IN A (in)
part B pins: 5 +IN B (in), 6 -IN B (in), 7 OUT B (out)
part C pins: 8 OUT C (out), 9 -IN C (in), 10 +IN C (in)
part D pins: 12 +IN D (in), 13 -IN D (in), 14 OUT D (out)

## LT1496HS#TRPBF
designator U?
Quad Channel, Ultralow Power, Rail-to-Rail Precision Operational Amplifier, 0.0027 MHz Typical GBW, 0.001 V/us Typical SR, 2.1 to 36 V, 14-Pin SOIC (S-14), High Temperature / Automotive, Pb-Free, Reel; Linear Technology Part Number: LT1496; Manufacturer: Linear Technology; PartNumber: LT1496HS#TRPBF; Channels (#): 4; GBW (MHz) Typical: 0.0027; Is (mA) Typical: 0.001; Vos (mV) Typical: 0.15; Vs Max (V): 36; Vs Min (V): 2.1; DatasheetVersion: Rev. B; PackageVersion: Rev G; PackageReference: LT-S-14; PackageDescription: 14-Lead Plastic Small Outline, Body 8.65 x 3.90 mm, Pitch 1.27 mm; Supplier 1: Digi-Key; Supplier Part Number 1: LT1496HS#TRPBF-ND; Packing: Reel; RoHS: Pb-Free; SR (V/us) Typical: 0.001; Type: VFB; Mounting Technology: Surface Mount; ComponentLink1Description: Manufacturer URL; ComponentLink1URL: http://www.linear.com/; ComponentLink2Description: Datasheet; ComponentLink2URL: http://cds.linear.com/docs/en/datasheet/149456fb.pdf; ComponentLink3Description: Package Specification; ComponentLink3URL: http://cds.linear.com/docs/en/packaging/05081610_G_S14.pdf
footprint LT-S-14_N (SOIC, 14-Leads, Body 8.65x3.90mm, Pitch 1.27mm, IPC Medium Density)
footprint LT-S-14_L (SOIC, 14-Leads, Body 8.65x3.90mm, Pitch 1.27mm, IPC High Density)
footprint LT-S-14_M (SOIC, 14-Leads, Body 8.65x3.90mm, Pitch 1.27mm, IPC Low Density)
pins on every part: 4 V+ (power), 11 V- (power)
part A pins: 1 OUT A (out), 2 -IN A (in), 3 +IN A (in)
part B pins: 5 +IN B (in), 6 -IN B (in), 7 OUT B (out)
part C pins: 8 OUT C (out), 9 -IN C (in), 10 +IN C (in)
part D pins: 12 +IN D (in), 13 -IN D (in), 14 OUT D (out)

## LT1496IN
designator U?
Quad Channel, Ultralow Power, Rail-to-Rail Precision Operational Amplifier, 0.0027 MHz Typical GBW, 0.001 V/us Typical SR, 2.1 to 36 V, 14-Pin DIP (N-14), Industrial; Linear Technology Part Number: LT1496; Manufacturer: Linear Technology; PartNumber: LT1496IN; Channels (#): 4; GBW (MHz) Typical: 0.0027; Is (mA) Typical: 0.001; Vos (mV) Typical: 0.15; Vs Max (V): 36; Vs Min (V): 2.1; DatasheetVersion: Rev. B; PackageVersion: Rev I; PackageReference: LT-N-14; PackageDescription: 14-Lead PDIP, Body 19.558 x 6.477 mm, Pitch 2.54 mm; Supplier 1: Digi-Key; Supplier Part Number 1: LT1496IN-ND; SR (V/us) Typical: 0.001; Type: VFB; Mounting Technology: Surface Mount; ComponentLink1Description: Manufacturer URL; ComponentLink1URL: http://www.linear.com/; ComponentLink2Description: Datasheet; ComponentLink2URL: http://cds.linear.com/docs/en/datasheet/149456fb.pdf; ComponentLink3Description: Package Specification; ComponentLink3URL: http://cds.linear.com/docs/en/packaging/05081510_I_N14.pdf
footprint LT-N-14 (DIP, 14-Leads, Body 19.558x6.477mm, Pitch 2.54mm)
pins on every part: 4 V+ (power), 11 V- (power)
part A pins: 1 OUT A (out), 2 -IN A (in), 3 +IN A (in)
part B pins: 5 +IN B (in), 6 -IN B (in), 7 OUT B (out)
part C pins: 8 OUT C (out), 9 -IN C (in), 10 +IN C (in)
part D pins: 12 +IN D (in), 13 -IN D (in), 14 OUT D (out)

## LT1496IN#PBF
designator U?
Quad Channel, Ultralow Power, Rail-to-Rail Precision Operational Amplifier, 0.0027 MHz Typical GBW, 0.001 V/us Typical SR, 2.1 to 36 V, 14-Pin DIP (N-14), Industrial, Pb-Free; Linear Technology Part Number: LT1496; Manufacturer: Linear Technology; PartNumber: LT1496IN#PBF; Channels (#): 4; GBW (MHz) Typical: 0.0027; Is (mA) Typical: 0.001; Vos (mV) Typical: 0.15; Vs Max (V): 36; Vs Min (V): 2.1; DatasheetVersion: Rev. B; PackageVersion: Rev I; PackageReference: LT-N-14; PackageDescription: 14-Lead PDIP, Body 19.558 x 6.477 mm, Pitch 2.54 mm; Supplier 1: Digi-Key; Supplier Part Number 1: LT1496IN#PBF-ND; RoHS: Pb-Free; SR (V/us) Typical: 0.001; Type: VFB; Mounting Technology: Through Hole; ComponentLink1Description: Manufacturer URL; ComponentLink1URL: http://www.linear.com/; ComponentLink2Description: Datasheet; ComponentLink2URL: http://cds.linear.com/docs/en/datasheet/149456fb.pdf; ComponentLink3Description: Package Specification; ComponentLink3URL: http://cds.linear.com/docs/en/packaging/05081510_I_N14.pdf
footprint LT-N-14 (DIP, 14-Leads, Body 19.558x6.477mm, Pitch 2.54mm)
pins on every part: 4 V+ (power), 11 V- (power)
part A pins: 1 OUT A (out), 2 -IN A (in), 3 +IN A (in)
part B pins: 5 +IN B (in), 6 -IN B (in), 7 OUT B (out)
part C pins: 8 OUT C (out), 9 -IN C (in), 10 +IN C (in)
part D pins: 12 +IN D (in), 13 -IN D (in), 14 OUT D (out)

## LT1496IS
designator U?
Quad Channel, Ultralow Power, Rail-to-Rail Precision Operational Amplifier, 0.0027 MHz Typical GBW, 0.001 V/us Typical SR, 2.1 to 36 V, 14-Pin SOIC (S-14), Industrial; Linear Technology Part Number: LT1496; Manufacturer: Linear Technology; PartNumber: LT1496IS; Channels (#): 4; GBW (MHz) Typical: 0.0027; Is (mA) Typical: 0.001; Vos (mV) Typical: 0.15; Vs Max (V): 36; Vs Min (V): 2.1; DatasheetVersion: Rev. B; PackageVersion: Rev G; PackageReference: LT-S-14; PackageDescription: 14-Lead Plastic Small Outline, Body 8.65 x 3.90 mm, Pitch 1.27 mm; Supplier 1: Digi-Key; Supplier Part Number 1: LT1496IS-ND; SR (V/us) Typical: 0.001; Type: VFB; Mounting Technology: Surface Mount; ComponentLink1Description: Manufacturer URL; ComponentLink1URL: http://www.linear.com/; ComponentLink2Description: Datasheet; ComponentLink2URL: http://cds.linear.com/docs/en/datasheet/149456fb.pdf; ComponentLink3Description: Package Specification; ComponentLink3URL: http://cds.linear.com/docs/en/packaging/05081610_G_S14.pdf
footprint LT-S-14_N (SOIC, 14-Leads, Body 8.65x3.90mm, Pitch 1.27mm, IPC Medium Density)
footprint LT-S-14_L (SOIC, 14-Leads, Body 8.65x3.90mm, Pitch 1.27mm, IPC High Density)
footprint LT-S-14_M (SOIC, 14-Leads, Body 8.65x3.90mm, Pitch 1.27mm, IPC Low Density)
pins on every part: 4 V+ (power), 11 V- (power)
part A pins: 1 OUTA (out), 2 -INA (in), 3 +INA (in)
part B pins: 5 +INB (in), 6 -INB (in), 7 OUTB (out)
part C pins: 8 OUTC (out), 9 -INC (in), 10 +INC (in)
part D pins: 12 +IND (in), 13 -IND (in), 14 OUTD (out)

## LT1496IS#PBF
designator U?
Quad Channel, Ultralow Power, Rail-to-Rail Precision Operational Amplifier, 0.0027 MHz Typical GBW, 0.001 V/us Typical SR, 2.1 to 36 V, 14-Pin SOIC (S-14), Industrial, Pb-Free; Linear Technology Part Number: LT1496; Manufacturer: Linear Technology; PartNumber: LT1496IS#PBF; Channels (#): 4; GBW (MHz) Typical: 0.0027; Is (mA) Typical: 0.001; Vos (mV) Typical: 0.15; Vs Max (V): 36; Vs Min (V): 2.1; DatasheetVersion: Rev. B; PackageVersion: Rev G; PackageReference: LT-S-14; PackageDescription: 14-Lead Plastic Small Outline, Body 8.65 x 3.90 mm, Pitch 1.27 mm; Supplier 1: Digi-Key; Supplier Part Number 1: LT1496IS#PBF-ND; Supplier 2: Farnell; Supplier Part Number 2: 2252728; Supplier 3: Newark; Supplier Part Number 3: 57M4548; RoHS: Pb-Free; SR (V/us) Typical: 0.001; Type: VFB; Mounting Technology: Surface Mount; ComponentLink1Description: Manufacturer URL; ComponentLink1URL: http://www.linear.com/; ComponentLink2Description: Datasheet; ComponentLink2URL: http://cds.linear.com/docs/en/datasheet/149456fb.pdf; ComponentLink3Description: Package Specification; ComponentLink3URL: http://cds.linear.com/docs/en/packaging/05081610_G_S14.pdf
footprint LT-S-14_N (SOIC, 14-Leads, Body 8.65x3.90mm, Pitch 1.27mm, IPC Medium Density)
footprint LT-S-14_L (SOIC, 14-Leads, Body 8.65x3.90mm, Pitch 1.27mm, IPC High Density)
footprint LT-S-14_M (SOIC, 14-Leads, Body 8.65x3.90mm, Pitch 1.27mm, IPC Low Density)
pins on every part: 4 V+ (power), 11 V- (power)
part A pins: 1 OUTA (out), 2 -INA (in), 3 +INA (in)
part B pins: 5 +INB (in), 6 -INB (in), 7 OUTB (out)
part C pins: 8 OUTC (out), 9 -INC (in), 10 +INC (in)
part D pins: 12 +IND (in), 13 -IND (in), 14 OUTD (out)

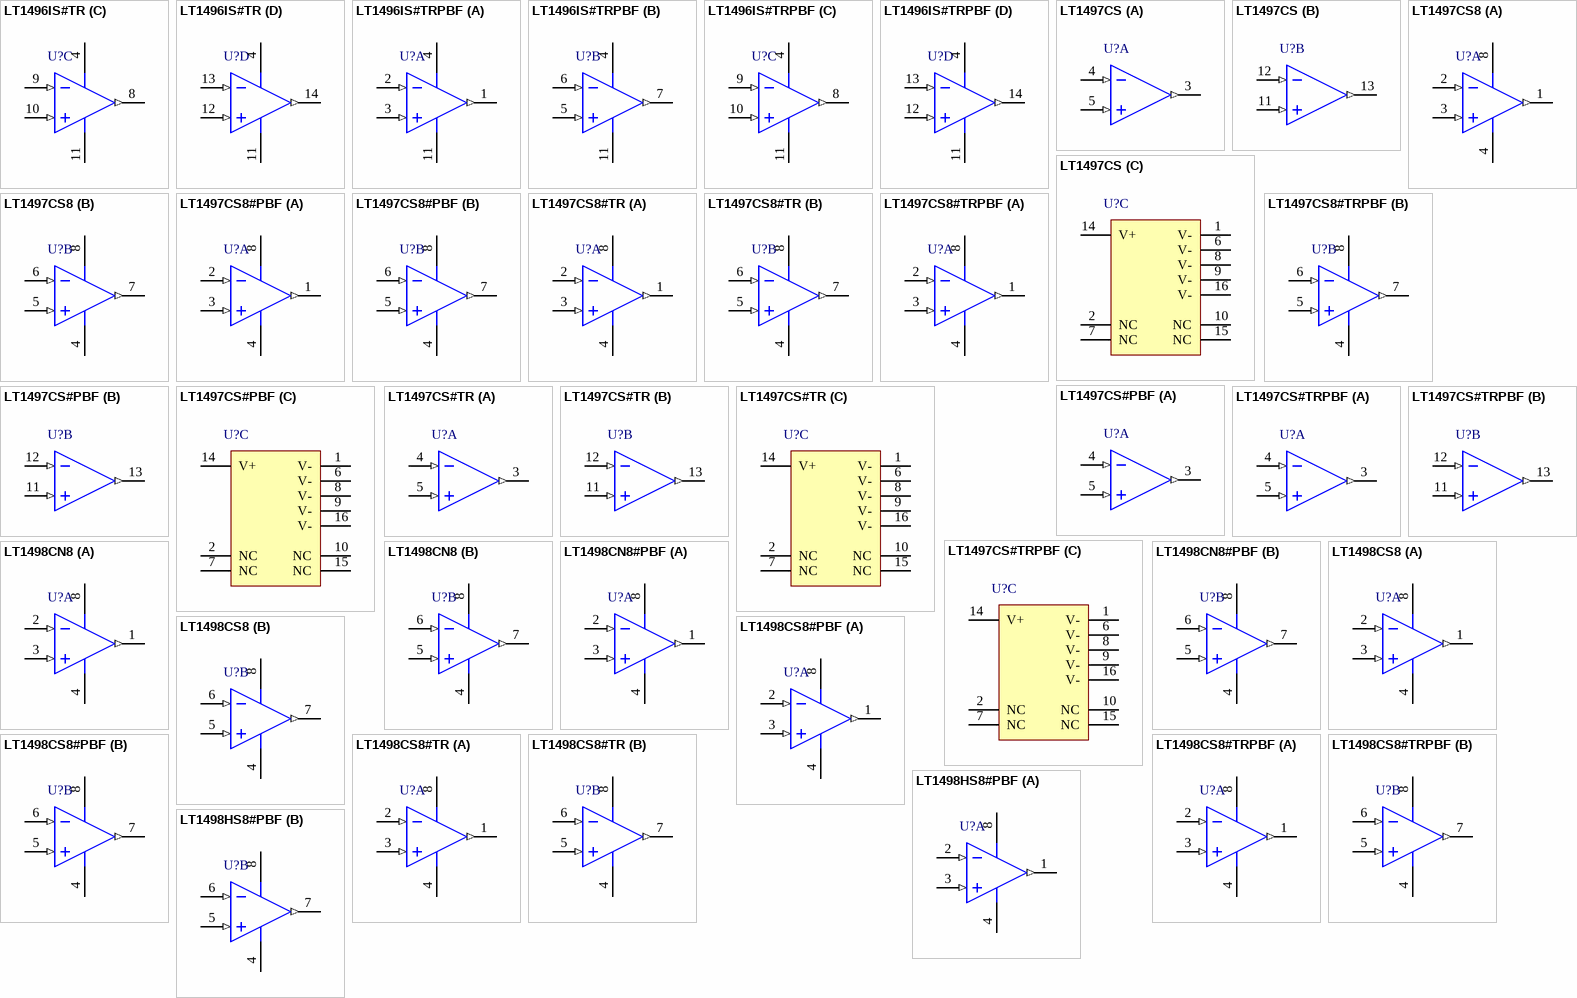
[diagram p52: symbols LT1496IS#TR to LT1498HS8#PBF]

## LT1496IS#TR
designator U?
Quad Channel, Ultralow Power, Rail-to-Rail Precision Operational Amplifier, 0.0027 MHz Typical GBW, 0.001 V/us Typical SR, 2.1 to 36 V, 14-Pin SOIC (S-14), Industrial, Reel; Linear Technology Part Number: LT1496; Manufacturer: Linear Technology; PartNumber: LT1496IS#TR; Channels (#): 4; GBW (MHz) Typical: 0.0027; Is (mA) Typical: 0.001; Vos (mV) Typical: 0.15; Vs Max (V): 36; Vs Min (V): 2.1; DatasheetVersion: Rev. B; PackageVersion: Rev G; PackageReference: LT-S-14; PackageDescription: 14-Lead Plastic Small Outline, Body 8.65 x 3.90 mm, Pitch 1.27 mm; Supplier 1: Digi-Key; Supplier Part Number 1: LT1496IS#TR-ND; Packing: Reel; SR (V/us) Typical: 0.001; Type: VFB; Mounting Technology: Surface Mount; ComponentLink1Description: Manufacturer URL; ComponentLink1URL: http://www.linear.com/; ComponentLink2Description: Datasheet; ComponentLink2URL: http://cds.linear.com/docs/en/datasheet/149456fb.pdf; ComponentLink3Description: Package Specification; ComponentLink3URL: http://cds.linear.com/docs/en/packaging/05081610_G_S14.pdf
footprint LT-S-14_N (SOIC, 14-Leads, Body 8.65x3.90mm, Pitch 1.27mm, IPC Medium Density)
footprint LT-S-14_L (SOIC, 14-Leads, Body 8.65x3.90mm, Pitch 1.27mm, IPC High Density)
footprint LT-S-14_M (SOIC, 14-Leads, Body 8.65x3.90mm, Pitch 1.27mm, IPC Low Density)
pins on every part: 4 V+ (power), 11 V- (power)
part A pins: 1 OUTA (out), 2 -INA (in), 3 +INA (in)
part B pins: 5 +INB (in), 6 -INB (in), 7 OUTB (out)
part C pins: 8 OUTC (out), 9 -INC (in), 10 +INC (in)
part D pins: 12 +IND (in), 13 -IND (in), 14 OUTD (out)

## LT1496IS#TRPBF
designator U?
Quad Channel, Ultralow Power, Rail-to-Rail Precision Operational Amplifier, 0.0027 MHz Typical GBW, 0.001 V/us Typical SR, 2.1 to 36 V, 14-Pin SOIC (S-14), Industrial, Pb-Free, Reel; Linear Technology Part Number: LT1496; Manufacturer: Linear Technology; PartNumber: LT1496IS#TRPBF; Channels (#): 4; GBW (MHz) Typical: 0.0027; Is (mA) Typical: 0.001; Vos (mV) Typical: 0.15; Vs Max (V): 36; Vs Min (V): 2.1; DatasheetVersion: Rev. B; PackageVersion: Rev G; PackageReference: LT-S-14; PackageDescription: 14-Lead Plastic Small Outline, Body 8.65 x 3.90 mm, Pitch 1.27 mm; Supplier 1: Digi-Key; Supplier Part Number 1: LT1496IS#TRPBF-ND; Packing: Reel; RoHS: Pb-Free; SR (V/us) Typical: 0.001; Type: VFB; Mounting Technology: Surface Mount; ComponentLink1Description: Manufacturer URL; ComponentLink1URL: http://www.linear.com/; ComponentLink2Description: Datasheet; ComponentLink2URL: http://cds.linear.com/docs/en/datasheet/149456fb.pdf; ComponentLink3Description: Package Specification; ComponentLink3URL: http://cds.linear.com/docs/en/packaging/05081610_G_S14.pdf
footprint LT-S-14_N (SOIC, 14-Leads, Body 8.65x3.90mm, Pitch 1.27mm, IPC Medium Density)
footprint LT-S-14_L (SOIC, 14-Leads, Body 8.65x3.90mm, Pitch 1.27mm, IPC High Density)
footprint LT-S-14_M (SOIC, 14-Leads, Body 8.65x3.90mm, Pitch 1.27mm, IPC Low Density)
pins on every part: 4 V+ (power), 11 V- (power)
part A pins: 1 OUTA (out), 2 -INA (in), 3 +INA (in)
part B pins: 5 +INB (in), 6 -INB (in), 7 OUTB (out)
part C pins: 8 OUTC (out), 9 -INC (in), 10 +INC (in)
part D pins: 12 +IND (in), 13 -IND (in), 14 OUTD (out)

## LT1497CS
designator U?
Dual Channel, 125 mA Output Current Feedback Amplifier, 59 MHz Typical GBW, 900 V/us Typical SR, 4 to 36 V, 16-Pin SOIC (S-16), Commerical; Linear Technology Part Number: LT1497; Manufacturer: Linear Technology; PartNumber: LT1497CS; Channels (#): 2; GBW (MHz) Typical: 59; Is (mA) Typical: 6; SR (V/us) Typical: 900; Vos (mV) Typical: 3; Vs Max (V): 36; Vs Min (V): 4; PackageVersion: Rev G; PackageReference: LT-S-16; PackageDescription: 16-Lead Plastic Small Outline, Body 9.9 x 3.9 mm, Pitch 1.27 mm; Supplier 1: Digi-Key; Supplier Part Number 1: LT1497CS-ND; Supplier 2: Newark; Supplier Part Number 2: 57M4551; Type: CFA; Mounting Technology: Surface Mount; ComponentLink1Description: Manufacturer URL; ComponentLink1URL: http://www.linear.com/; ComponentLink2Description: Datasheet; ComponentLink2URL: http://cds.linear.com/docs/en/datasheet/1497f.pdf; ComponentLink3Description: Package Specification; ComponentLink3URL: http://cds.linear.com/docs/en/packaging/S16%2005-08-1610%20Rev%20G.pdf
footprint LT-S-16_N (SOP, 16-Leads, Body 9.9x3.9mm, Pitch 1.27mm, IPC Medium Density)
footprint LT-S-16_L (SOP, 16-Leads, Body 9.9x3.9mm, Pitch 1.27mm, IPC High Density)
footprint LT-S-16_M (SOP, 16-Leads, Body 9.9x3.9mm, Pitch 1.27mm, IPC Low Density)
part A pins: 3 OUT A (out), 4 -IN A (in), 5 +IN A (in)
part B pins: 11 +IN B (in), 12 -IN B (in), 13 OUT B (out)
part C pins: 1 V- (power), 2 NC, 6 V- (power), 7 NC, 8 V- (power), 9 V- (power), 10 NC, 14 V+ (power), 15 NC, 16 V- (power)

## LT1497CS8
designator U?
Dual Channel, 125 mA Output Current Feedback Amplifier, 59 MHz Typical GBW, 900 V/us Typical SR, 4 to 36 V, 8-Pin SOIC (S8-8), Commerical; Linear Technology Part Number: LT1497; Manufacturer: Linear Technology; PartNumber: LT1497CS8; Channels (#): 2; GBW (MHz) Typical: 59; Is (mA) Typical: 6; SR (V/us) Typical: 900; Vos (mV) Typical: 3; Vs Max (V): 36; Vs Min (V): 4; PackageVersion: Rev G; PackageReference: LT-S8-8; PackageDescription: 8-Pin Plastic Small Outline, Body 4.9 x 3.9 mm, Pitch 1.27 mm; Supplier 1: Digi-Key; Supplier Part Number 1: LT1497CS8-ND; Type: CFA; Mounting Technology: Surface Mount; ComponentLink1Description: Manufacturer URL; ComponentLink1URL: http://www.linear.com/; ComponentLink2Description: Datasheet; ComponentLink2URL: http://cds.linear.com/docs/en/datasheet/1497f.pdf; ComponentLink3Description: Package Specification; ComponentLink3URL: http://cds.linear.com/docs/en/packaging/05081610_G_SO8.pdf
footprint LT-S8-8_N (SOIC, 8-Leads, Body 4.9x3.9mm, Pitch 1.27mm, IPC Medium Density)
footprint LT-S8-8_L (SOIC, 8-Leads, Body 4.9x3.9mm, Pitch 1.27mm, IPC High Density)
footprint LT-S8-8_M (SOIC, 8-Leads, Body 4.9x3.9mm, Pitch 1.27mm, IPC Low Density)
pins on every part: 4 V- (power), 8 V+ (power)
part A pins: 1 OUT A (out), 2 -IN A (in), 3 +IN A (in)
part B pins: 5 +IN B (in), 6 -IN B (in), 7 OUT B (out)

## LT1497CS8#PBF
designator U?
Dual Channel, 125 mA Output Current Feedback Amplifier, 59 MHz Typical GBW, 900 V/us Typical SR, 4 to 36 V, 8-Pin SOIC (S8-8), Commerical, Pb-Free; Linear Technology Part Number: LT1497; Manufacturer: Linear Technology; PartNumber: LT1497CS8#PBF; Channels (#): 2; GBW (MHz) Typical: 59; Is (mA) Typical: 6; SR (V/us) Typical: 900; Vos (mV) Typical: 3; Vs Max (V): 36; Vs Min (V): 4; PackageVersion: Rev G; PackageReference: LT-S8-8; PackageDescription: 8-Pin Plastic Small Outline, Body 4.9 x 3.9 mm, Pitch 1.27 mm; Supplier 1: Digi-Key; Supplier Part Number 1: LT1497CS8#PBF-ND; Supplier 2: Newark; Supplier Part Number 2: 57M4556; RoHS: Pb-Free; Type: CFA; Mounting Technology: Surface Mount; ComponentLink1Description: Manufacturer URL; ComponentLink1URL: http://www.linear.com/; ComponentLink2Description: Datasheet; ComponentLink2URL: http://cds.linear.com/docs/en/datasheet/1497f.pdf; ComponentLink3Description: Package Specification; ComponentLink3URL: http://cds.linear.com/docs/en/packaging/05081610_G_SO8.pdf
footprint LT-S8-8_N (SOIC, 8-Leads, Body 4.9x3.9mm, Pitch 1.27mm, IPC Medium Density)
footprint LT-S8-8_L (SOIC, 8-Leads, Body 4.9x3.9mm, Pitch 1.27mm, IPC High Density)
footprint LT-S8-8_M (SOIC, 8-Leads, Body 4.9x3.9mm, Pitch 1.27mm, IPC Low Density)
pins on every part: 4 V- (power), 8 V+ (power)
part A pins: 1 OUT A (out), 2 -IN A (in), 3 +IN A (in)
part B pins: 5 +IN B (in), 6 -IN B (in), 7 OUT B (out)

## LT1497CS8#TR
designator U?
Dual Channel, 125 mA Output Current Feedback Amplifier, 59 MHz Typical GBW, 900 V/us Typical SR, 4 to 36 V, 8-Pin SOIC (S8-8), Commerical, Reel; Linear Technology Part Number: LT1497; Manufacturer: Linear Technology; PartNumber: LT1497CS8#TR; Channels (#): 2; GBW (MHz) Typical: 59; Is (mA) Typical: 6; SR (V/us) Typical: 900; Vos (mV) Typical: 3; Vs Max (V): 36; Vs Min (V): 4; PackageVersion: Rev G; PackageReference: LT-S8-8; PackageDescription: 8-Pin Plastic Small Outline, Body 4.9 x 3.9 mm, Pitch 1.27 mm; Supplier 1: Digi-Key; Supplier Part Number 1: LT1497CS8#TR-ND; Packing: Reel; Type: CFA; Mounting Technology: Surface Mount; ComponentLink1Description: Manufacturer URL; ComponentLink1URL: http://www.linear.com/; ComponentLink2Description: Datasheet; ComponentLink2URL: http://cds.linear.com/docs/en/datasheet/1497f.pdf; ComponentLink3Description: Package Specification; ComponentLink3URL: http://cds.linear.com/docs/en/packaging/05081610_G_SO8.pdf
footprint LT-S8-8_N (SOIC, 8-Leads, Body 4.9x3.9mm, Pitch 1.27mm, IPC Medium Density)
footprint LT-S8-8_L (SOIC, 8-Leads, Body 4.9x3.9mm, Pitch 1.27mm, IPC High Density)
footprint LT-S8-8_M (SOIC, 8-Leads, Body 4.9x3.9mm, Pitch 1.27mm, IPC Low Density)
pins on every part: 4 V- (power), 8 V+ (power)
part A pins: 1 OUT A (out), 2 -IN A (in), 3 +IN A (in)
part B pins: 5 +IN B (in), 6 -IN B (in), 7 OUT B (out)

## LT1497CS8#TRPBF
designator U?
Dual Channel, 125 mA Output Current Feedback Amplifier, 59 MHz Typical GBW, 900 V/us Typical SR, 4 to 36 V, 8-Pin SOIC (S8-8), Commerical, Pb-Free, Reel; Linear Technology Part Number: LT1497; Manufacturer: Linear Technology; PartNumber: LT1497CS8#TRPBF; Channels (#): 2; GBW (MHz) Typical: 59; Is (mA) Typical: 6; SR (V/us) Typical: 900; Vos (mV) Typical: 3; Vs Max (V): 36; Vs Min (V): 4; PackageVersion: Rev G; PackageReference: LT-S8-8; PackageDescription: 8-Pin Plastic Small Outline, Body 4.9 x 3.9 mm, Pitch 1.27 mm; Supplier 1: Digi-Key; Supplier Part Number 1: LT1497CS8#TRPBF-ND; Packing: Reel; RoHS: Pb-Free; Type: CFA; Mounting Technology: Surface Mount; ComponentLink1Description: Manufacturer URL; ComponentLink1URL: http://www.linear.com/; ComponentLink2Description: Datasheet; ComponentLink2URL: http://cds.linear.com/docs/en/datasheet/1497f.pdf; ComponentLink3Description: Package Specification; ComponentLink3URL: http://cds.linear.com/docs/en/packaging/05081610_G_SO8.pdf
footprint LT-S8-8_N (SOIC, 8-Leads, Body 4.9x3.9mm, Pitch 1.27mm, IPC Medium Density)
footprint LT-S8-8_L (SOIC, 8-Leads, Body 4.9x3.9mm, Pitch 1.27mm, IPC High Density)
footprint LT-S8-8_M (SOIC, 8-Leads, Body 4.9x3.9mm, Pitch 1.27mm, IPC Low Density)
pins on every part: 4 V- (power), 8 V+ (power)
part A pins: 1 OUT A (out), 2 -IN A (in), 3 +IN A (in)
part B pins: 5 +IN B (in), 6 -IN B (in), 7 OUT B (out)